# EAGLE library part USB-C-FEMALE-LOWPINS (library comma.ai)
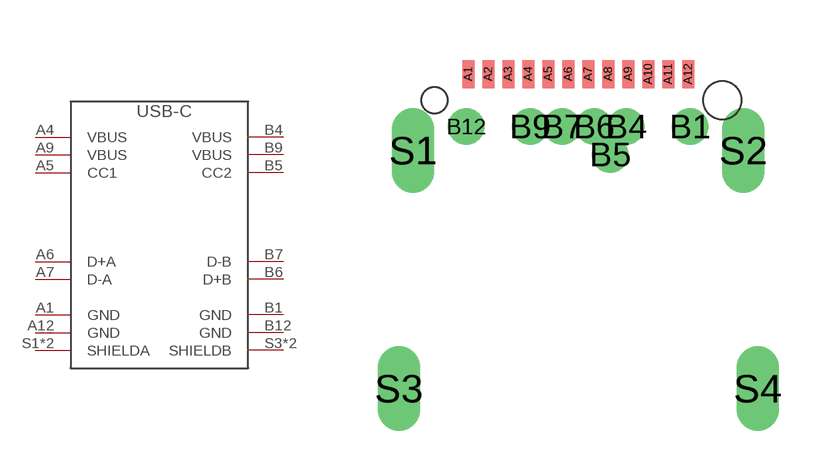
[diagram p37: symbol with the pads of USB-C-FEMALE-RA; footprint USB-C-FEMALE-RA]

Designator prefix -

## USB-C-FEMALE-LOWPINS  [USB-C-FEMALE-RA]
A1  GND
A4  VBUS
A5  CC1
A6  D+A
A7  D-A
A9  VBUS
A12  GND
B1  GND
B4  VBUS
B5  CC2
B6  D+B
B7  D-B
B9  VBUS
B12  GND
S1  SHIELDA
S2  SHIELDA
S3  SHIELDB
S4  SHIELDB

## Footprint USB-C-FEMALE-RA (pad centres in mm)
smd 0.3 x 0.7: A1 -2.75,0; A2 -2.25,0; A3 -1.75,0; A4 -1.25,0; A5 -0.75,0; A6 -0.25,0; A7 0.25,0; A8 0.75,0; A9 1.25,0; A10 1.75,0; A11 2.25,0; A12 2.75,0
drill 0.4 pad 0.65: B1 2.8,-1.31; B4 1.2,-1.31; B5 0.8,-2.01; B6 0.4,-1.31; B7 -0.4,-1.31; B9 -1.2,-1.31; B12 -2.8,-1.31
drill 0.55 pad 0.7 long: S1 -4.13,-1.91; S2 4.13,-1.91; S3 -4.49,-7.86; S4 4.49,-7.86
hole 0.65 at -3.6,-0.66
hole 0.95 at 3.6,-0.66